# EAGLE library part 74HC595 (library deiring-components)
Shifting Register
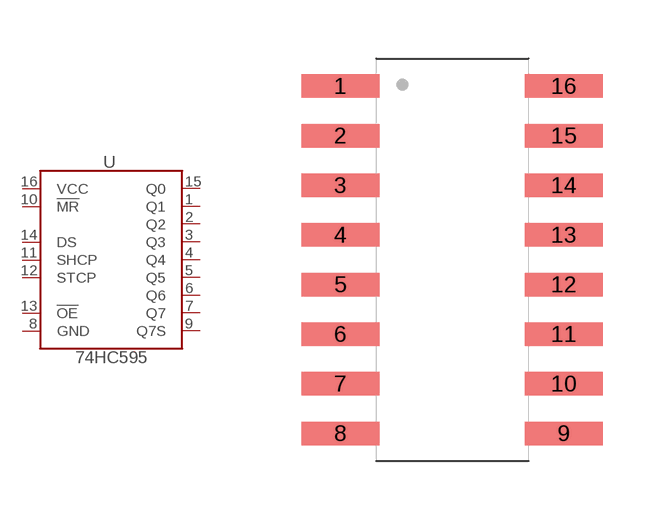
[diagram p1: symbol with the pads of SOIC-16; footprint SOIC-16]

Designator prefix U

## 74HC595-SOIC-16 (LCSC: C5947; MF: 74HC595D,118; MPN: Nexperia; VALUE: 74HC595)  [SOIC-16]
1  Q1
2  Q2
3  Q3
4  Q4
5  Q5
6  Q6
7  Q7
8  GND  pwr
9  Q7S
10  !MR
11  SHCP
12  STCP
13  !OE
14  DS
15  Q0
16  VCC  pwr

## Footprint SOIC-16 (pad centres in mm)
smd 2 x 0.6: 1 -2.86,4.445; 2 -2.86,3.175; 3 -2.86,1.905; 4 -2.86,0.635; 5 -2.86,-0.635; 6 -2.86,-1.905; 7 -2.86,-3.175; 8 -2.86,-4.445; 9 2.86,-4.445; 10 2.86,-3.175; 11 2.86,-1.905; 12 2.86,-0.635; 13 2.86,0.635; 14 2.86,1.905; 15 2.86,3.175; 16 2.86,4.445